# EAGLE library part RS9110 (library SparkFun-RF)
Redpine WiFi module
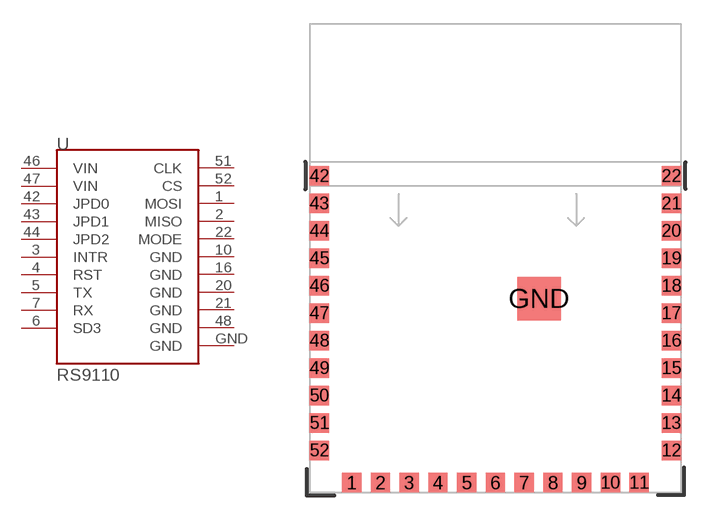
[diagram p39: symbol with the pads of RS9110-N-11-22-SHORT; footprint RS9110-N-11-22-SHORT]

Designator prefix U

## RS9110  [RS9110-N-11-22-SHORT]
1  MOSI
2  MISO
3  INTR
4  RST
5  TX
6  SD3
7  RX
10  GND
16  GND
20  GND
21  GND
22  MODE
42  JPD0
43  JPD1
44  JPD2
46  VIN
47  VIN
48  GND
51  CLK
52  CS
GND  GND

## Footprint RS9110-N-11-22-SHORT (pad centres in mm)
Redpine WiFi module: short FP (doesn't include the NC pads around the antenna)
smd 1.2 x 1.2: 1 -8.9,-13.9; 2 -7.12,-13.9; 3 -5.34,-13.9; 4 -3.56,-13.9; 5 -1.78,-13.9; 6 0,-13.9; 7 1.78,-13.9; 8 3.56,-13.9; 9 5.34,-13.9; 10 7.12,-13.9; 11 8.9,-13.9; 12 10.9,-11.9; 13 10.9,-10.2; 14 10.9,-8.5; 15 10.9,-6.8; 16 10.9,-5.1; 17 10.9,-3.4; 18 10.9,-1.7; 19 10.9,0; 20 10.9,1.7; 21 10.9,3.4; 22 10.9,5.1; 42 -10.9,5.1; 43 -10.9,3.4; 44 -10.9,1.7; 45 -10.9,0; 46 -10.9,-1.7; 47 -10.9,-3.4; 48 -10.9,-5.1; 49 -10.9,-6.8; 50 -10.9,-8.5; 51 -10.9,-10.2; 52 -10.9,-11.9
smd 2.7 x 2.7: GND 2.7,-2.5